# Altium schematic symbol library AGC.SchLib: 5 symbols
Pins are listed as number, name and electrical type; pins without a type are passive.

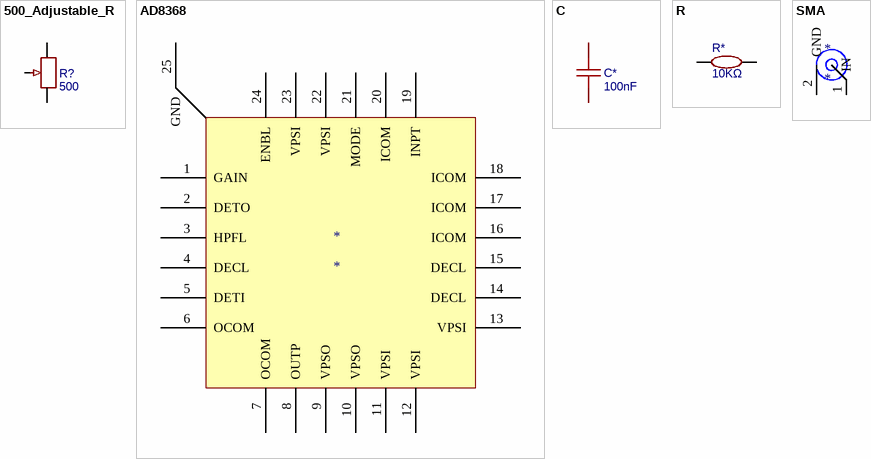
[diagram p0: symbols 500_Adjustable_R to SMA]

## 500_Adjustable_R
designator R?, comment 500
BOM_Manufacturer: Chengdu Guosheng Tech; BOM_Manufacturer Part: 3296W-1-501; nameAlias: Resistance(Ohms); Contributor: LCSC; BOM_Supplier: LCSC; BOM_Supplier Part: C330428; spicePre: R; spiceSymbolName: 3296W-1-501_C330428
footprint RES-ADJ_3296W
pins: 1, 2, 3

## AD8368
designator *
footprint LFCSP-24_4X4X05P
pins: 1 GAIN, 2 DETO, 3 HPFL, 4 DECL, 5 DETI, 6 OCOM, 7 OCOM, 8 OUTP, 9 VPSO, 10 VPSO, 11 VPSI, 12 VPSI, 13 VPSI, 14 DECL, 15 DECL, 16 ICOM, 17 ICOM, 18 ICOM, 19 INPT, 20 ICOM, 21 MODE, 22 VPSI, 23 VPSI, 24 ENBL, 25 GND

## C
designator C*, comment 100nF
BOM_Manufacturer: YAGEO; BOM_Manufacturer Part: CC0603KRX7R7BB104; nameAlias: Capacitance; Contributor: LCSC; BOM_Supplier: LCSC; BOM_Supplier Part: C108079; spicePre: C; spiceSymbolName: CC0603KRX7R7BB104
footprint 0603
pins: 1, 2

## R
designator R*, comment 10KΩ
BOM_Manufacturer Part: TC0350D1002T5E; BOM_Manufacturer: UniOhm; nameAlias: Value; BOM_Supplier: LCSC; BOM_Supplier Part: C64266; spicePre: R; spiceSymbolName: TC0350D1002T5E
footprint 0603
pins: 1, 2

## SMA
designator *
footprint SMA-2; pin to pad 2>2+3
pins: 1 IN, 2 GND